# Altium footprint library Breakouts.PcbLib: 3 footprints
Each footprint in its own frame and in the unit in brackets; x right, y up, seen from the top. Pads: shape width x height; smd on the part's side, far side on the other; paste and mask are expansions set on the pad; w line width, h text height; cw(c..) or ccw(c..) is an arc to the next point about the centre after c.
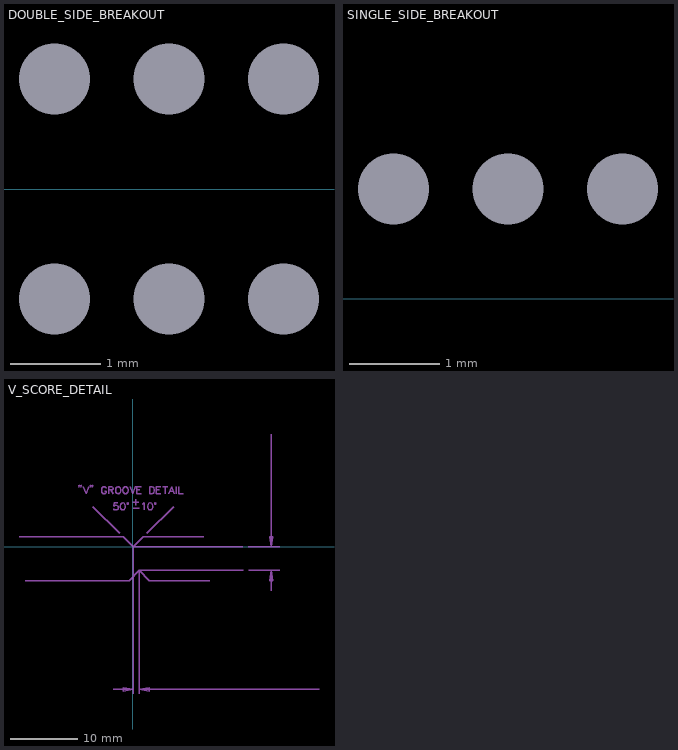
[diagram p0: the footprints below, top view; thin cyan lines are the x and y axes]

## DOUBLE_SIDE_BREAKOUT [mil] "Rout Tool Diameter 93 mil Slice Track 240 Mil"
pads (6):
  round 0 hole 31 unplated: 0(-170,-48) 0(-170,48) 0(-120,-48) 0(-120,48) 0(-70,-48) 0(-70,48)

## SINGLE_SIDE_BREAKOUT [mil] "Rout Tool Diameter 93 mil Slice Track 240 Mil"
pads (3):
  round 0 hole 31 unplated: 0(-170,48) 0(-120,48) 0(-70,48)

## V_SCORE_DETAIL [mil]
27_PANEL_FABRICATION_NOTES:
  drawing of 245 lines, arcs and shapes, not listed
  text "0.1 MAX. DEVIATION" at 216.28,-806.38 h49.21
  text "-" at 811.28,428.62 h49.21
  text "0.07" at 781.28,518.62 h49.21
  text "+" at 761.28,428.62 h49.21
  text "0.40" at 781.28,168.62 h49.21